# EAGLE library part FT260 (library Harrington-ICs v130)
USB-to-UART/I2C Converter FTDI - USB HID not USB COM
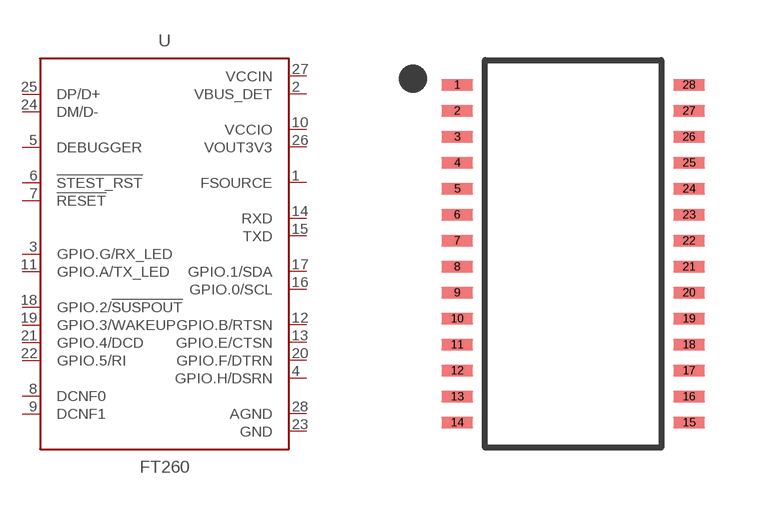
[diagram p8: symbol with the pads of TSSOP-28; footprint TSSOP-28]

Designator prefix U

## FT260S  [TSSOP-28]
1  FSOURCE  pwr
2  VBUS_DET  in
3  GPIO.G/RX_LED
4  GPIO.H/DSRN
5  DEBUGGER
6  !STEST_RST  in
7  !RESET  in
8  DCNF0  in
9  DCNF1  in
10  VCCIO  pwr
11  GPIO.A/TX_LED
12  GPIO.B/RTSN
13  GPIO.E/CTSN
14  RXD
15  TXD
16  GPIO.0/SCL
17  GPIO.1/SDA
18  GPIO.2/!SUSPOUT
19  GPIO.3/WAKEUP
20  GPIO.F/DTRN
21  GPIO.4/DCD
22  GPIO.5/RI
23  GND  pwr
24  DM/D-
25  DP/D+
26  VOUT3V3  pwr
27  VCCIN  pwr
28  AGND  pwr

## Footprint TSSOP-28 (pad centres in mm)
smd 0.8 x 0.3: 1 -2.9,4.225; 2 -2.9,3.575; 3 -2.9,2.925; 4 -2.9,2.275; 5 -2.9,1.625; 6 -2.9,0.975; 7 -2.9,0.325; 8 -2.9,-0.325; 9 -2.9,-0.975; 10 -2.9,-1.625; 11 -2.9,-2.275; 12 -2.9,-2.925; 13 -2.9,-3.575; 14 -2.9,-4.225; 15 2.9,-4.225; 16 2.9,-3.575; 17 2.9,-2.925; 18 2.9,-2.275; 19 2.9,-1.625; 20 2.9,-0.975; 21 2.9,-0.325; 22 2.9,0.325; 23 2.9,0.975; 24 2.9,1.625; 25 2.9,2.275; 26 2.9,2.925; 27 2.9,3.575; 28 2.9,4.225